# EAGLE library part SD (library xmaker)
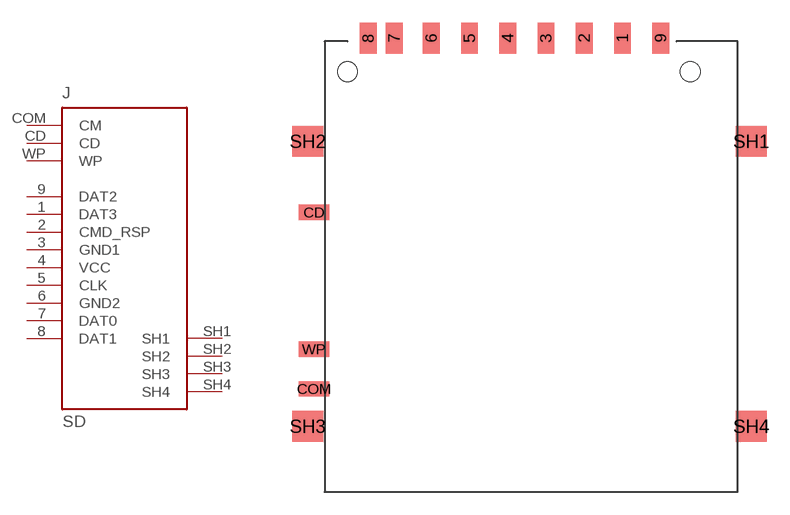
[diagram p9: symbol with the pads of DM1AA; footprint DM1AA]

Designator prefix J

## SD  [DM1AA]
1  DAT3
2  CMD_RSP
3  GND1
4  VCC
5  CLK
6  GND2
7  DAT0
8  DAT1
9  DAT2
CD  CD
COM  CM
SH1  SH1
SH2  SH2
SH3  SH3
SH4  SH4
WP  WP

## Footprint DM1AA (pad centres in mm)
Hirose
smd 1.1 x 2: 1 5.975,14.95; 2 3.475,14.95; 3 0.975,14.95; 4 -1.525,14.95; 5 -4.025,14.95; 6 -6.525,14.95; 7 -8.95,14.95; 8 -10.65,14.95; 9 8.475,14.95
smd 2 x 1: CD -14.2,3.55; COM -14.2,-8; WP -14.2,-5.4
smd 2 x 2: SH1 14.4,8.2; SH2 -14.6,8.2; SH3 -14.6,-10.45; SH4 14.4,-10.45
hole 1.3 at -12,12.75
hole 1.3 at 10.4,12.75